# Altium footprint library YakupTrkn3.PcbLib: 43 footprints (part 1 of 3)
Each footprint in its own frame and in the unit in brackets; x right, y up, seen from the top. Pads: shape width x height; smd on the part's side, far side on the other; paste and mask are expansions set on the pad; w line width, h text height; cw(c..) or ccw(c..) is an arc to the next point about the centre after c.
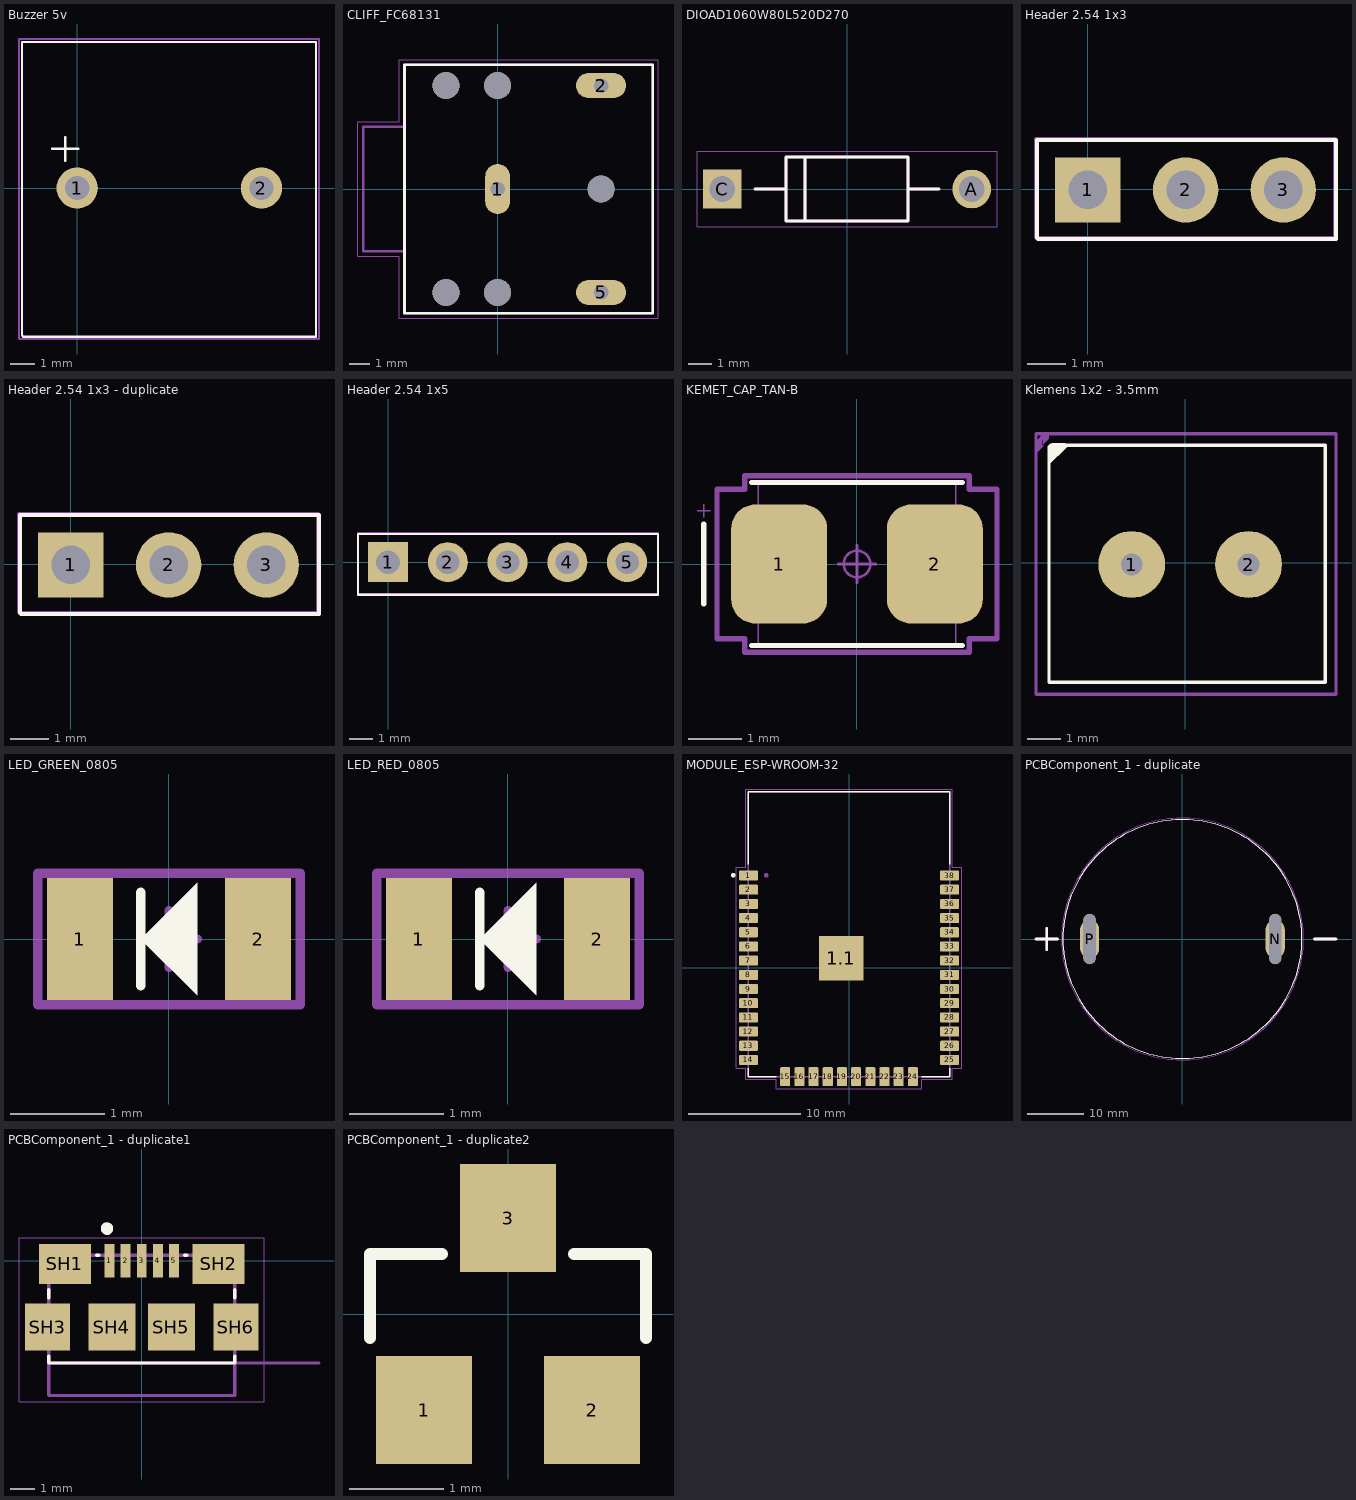
[diagram p0: the footprints below, top view; thin cyan lines are the x and y axes]

## Buzzer 5v [mm]
pads (2):
  round 1.7 hole 1 mask+0.05: 1(0,0) 2(7.6,0)
Top Overlay:
  lines w0.1: -1.025,1.625 0.05,1.625 ; -0.5,1.125 -0.5,2.1 ; -2.275,-6.075 -2.225,-6.125 9.85,-6.125 9.85,6.025 -2.275,6.025 -2.275,-6.075
Top Component Center:
  lines w0.1: -2.4,-6.225 9.975,-6.225 9.975,6.15 -2.4,6.15 -2.4,-6.225
3D body "cem-1205c.stp": height 9.5, standoff -4.5, extent -2.2,-6.05 9.8,5.95

## CLIFF_FC68131 [mm]
pads (8):
  oval 1.208x2.416 hole 0.7 square: 1(0,0)
  oval 2.416x1.208 hole 0.7 square: 2(5,5) 5(5,-5)
  round 1.3 hole 1.3 unplated: ""(-2.5,-5) ""(-2.5,5) ""(0,-5) ""(0,5) ""(5,0)
Top Overlay:
  lines w0.127: -4.5,-6 7.5,-6 7.5,6 -4.5,6 -4.5,-6
Mechanical 13:
  lines w0.127: -4.5,-3 -4.5,-6 7.5,-6 7.5,6 -4.5,6 -4.5,3 ; -4.5,-3 -4.5,3 ; -4.5,-3 -6.5,-3 -6.5,3 -4.5,3
  text "PCB EDGE" at -4.95,-6.25 h1.52
Mechanical 15:
  lines w0.05: -6.75,-3.25 -6.75,3.25 -4.75,3.25 -4.75,6.25 7.75,6.25 7.75,-6.25 -4.75,-6.25 -4.75,-3.25 -6.75,-3.25
3D body "step_temp.STEP": height 5.5, standoff -3.5, extent -6.5,-6 7.5,6

## DIOAD1060W80L520D270 [mm]
pads (2):
  round 1.65 hole 1.1: A(5.3,0)
  rect 1.65x1.65 hole 1.1: C(-5.3,0)
Top Overlay:
  lines w0.127: -3.9,0 -2.6,0 ; 3.9,0 2.6,0 ; -2.6,0 -2.6,-1.35 -1.775,-1.35 ; -2.6,0 -2.6,1.35 -1.775,1.35 ; -1.775,-1.35 -1.775,1.35 ; -1.775,-1.35 2.6,-1.35 2.6,0 ; -1.775,1.35 2.6,1.35 2.6,0
Mechanical 13:
  lines w0.127: -3.9,0 -2.6,0 ; 3.9,0 2.6,0 ; -2.6,0 -2.6,-1.35 -1.775,-1.35 ; -2.6,0 -2.6,1.35 -1.775,1.35 ; -1.775,-1.35 -1.775,1.35 ; -1.775,-1.35 2.6,-1.35 2.6,0 ; -1.775,1.35 2.6,1.35 2.6,0
Mechanical 15:
  lines w0.05: -6.375,-1.6 -6.375,1.6 6.375,1.6 6.375,-1.6 -6.375,-1.6
3D body "step_temp.STEP": height 2.69, standoff -21.77, extent -5.474,-1.346 5.474,1.346

## Header 2.54 1x3 [mm]
pads (3):
  rect 1.7x1.7 hole 1 mask+0.05: 1(0,-0.025)
  round 1.7 hole 1 mask+0.05: 2(2.54,-0.025) 3(5.08,-0.025)
Top Overlay:
  lines w0.1: -1.325,-1.275 -1.325,1.275 6.45,1.275 6.45,-1.3 -1.3,-1.3 -1.325,-1.275
Top Component Center:
  lines w0.1: -1.35,-1.25 -1.325,-1.275 6.425,-1.275 6.425,1.3 -1.35,1.3 -1.35,-1.25
3D body "User Library-ZL262-3SG.step": height 9.1, standoff -2.45, extent -1.26,-1.275 6.36,1.225

## Header 2.54 1x3 - duplicate [mm]
pads (3):
  rect 1.7x1.7 hole 1 mask+0.05: 1(0,-0.025)
  round 1.7 hole 1 mask+0.05: 2(2.54,-0.025) 3(5.08,-0.025)
Top Overlay:
  lines w0.1: -1.325,-1.275 -1.3,-1.3 6.45,-1.3 6.45,1.275 -1.325,1.275 -1.325,-1.275
Top Component Center:
  lines w0.1: -1.35,-1.25 -1.35,1.3 6.425,1.3 6.425,-1.275 -1.325,-1.275 -1.35,-1.25
3D body "User Library-ZL262-3SG.step": height 9.1, standoff -2.45, extent -1.26,-1.275 6.36,1.225

## Header 2.54 1x5 [mm]
pads (5):
  rect 1.7x1.7 hole 1 mask+0.05: 1(0,0)
  round 1.7 hole 1 mask+0.05: 2(2.54,0) 3(5.08,0) 4(7.62,0) 5(10.16,0)
Top Overlay:
  lines w0.1: -1.275,-1.375 -1.275,1.2 11.475,1.2 11.475,-1.375 -1.275,-1.375
Top Component Center:
  lines w0.1: -1.275,-1.35 -1.275,1.225 11.475,1.225 11.475,-1.35 -1.275,-1.35
3D body "User Library-ZL262-5SG (1).step": height 9.1, standoff -2.45, extent -1.25,-1.3 11.45,1.2

## KEMET_CAP_TAN-B [mm]
pads (2):
  rrect50% 1.8x2.23 smd paste+0 mask+0.04: 1(-1.46,0) 2(1.46,0)
Top Overlay:
  lines w0.1: -2.875,-0.75 -2.875,0.75 ; -1.977,-1.527 1.977,-1.527 ; -1.977,1.527 1.977,1.527
Mechanical 13:
  lines w0.025: -3,1 -2.75,1 ; -2.875,0.875 -2.875,1.125 ; -1.85,-1 -0.875,-1 -0.875,1 -1.85,1 ; 1.85,-1 0.875,-1 0.875,1 1.85,1 ; -1.85,-1.525 -1.85,1.525 1.85,1.525 1.85,-1.525 -1.85,-1.525
Mechanical 15:
  circle w0.05: c0,0 r0.25
  lines w0.05: -0.35,0 0.35,0 ; 0,-0.35 0,0.35
  lines w0.1: -2.625,-1.404 -2.104,-1.404 -2.104,-1.654 2.104,-1.654 2.104,-1.404 2.625,-1.404 2.625,1.404 2.104,1.404 2.104,1.654 -2.104,1.654 -2.104,1.404 -2.625,1.404 -2.625,-1.404
3D body "T495B106K025ATE750.step": height 2.1, standoff 0, extent -1.85,-1.5 1.85,1.5

## Klemens 1x2 - 3.5mm [mm]
pads (2):
  round 2 hole 0.65: 1(-1.6,-0.05) 2(1.9,-0.05)
Top Overlay:
  region: -3.533,3.482 -4.106,2.909 -4.106,3.444 -3.972,3.577 -3.593,3.577
  lines w0.1: -4.075,3.475 -4.075,-3.575 4.2,-3.575 4.2,3.525 -4.025,3.525
Top Component Center:
  region: -4.248,3.86 -4.464,3.644 -4.464,3.861 -4.462,3.86 -4.248,3.86 -4.248,3.496 -4.462,3.282 -4.462,3.86 -4.248,3.86 -4.241,3.853 -4.082,3.853 -4.082,3.709 -4.285,3.507
  lines w0.1: -4.462,-3.922 -4.453,-3.931 4.517,-3.931 4.517,3.86 -4.248,3.86 -4.462,3.86 -4.462,-3.922
3D body "terminal_blocks_a-tb350-te02.stp": height 8.9, standoff -3.29, extent -3.9,-3.45 4.094,3.55

## LED_GREEN_0805 [mm]
pads (2):
  rect 0.7x1.3 smd mask+0.05: 1(-0.95,0) 2(0.95,0)
Top Overlay:
  region: -0.3,0 0.3,0.6 0.3,-0.6
  lines w0.1: -0.3,-0.5 -0.3,0.5
Top Component Center:
  lines w0.1: -0.3,0 0.3,0 ; 0,-0.3 0,0.3 ; -1.4,-0.7 1.4,-0.7 1.4,0.7 -1.4,0.7 -1.4,-0.7
Top Designator:
  lines w0.1: -1.4,-0.7 1.4,-0.7 1.4,0.7 -1.4,0.7 -1.4,-0.7
  text "'.Designator'" at -1.25,-0.317 h0.7
3D body "SMD_0805LED_GREEN.STEP": height 1.1, standoff 0, extent -1.01,-0.625 1.01,0.625

## LED_RED_0805 [mm]
pads (2):
  rect 0.7x1.3 smd mask+0.05: 1(-0.95,0) 2(0.95,0)
Top Overlay:
  region: -0.3,0 0.3,0.6 0.3,-0.6
  lines w0.1: -0.3,-0.5 -0.3,0.5
Top Component Center:
  lines w0.1: -0.3,0 0.3,0 ; 0,-0.3 0,0.3 ; -1.4,-0.7 1.4,-0.7 1.4,0.7 -1.4,0.7 -1.4,-0.7
Top Designator:
  lines w0.1: -1.4,-0.7 1.4,-0.7 1.4,0.7 -1.4,0.7 -1.4,-0.7
  text "'.Designator'" at -1.25,-0.317 h0.7
3D body "SMD_0805LED_RED.STEP": height 1.1, standoff 0, extent -1.01,-0.625 1.01,0.625

## MODULE_ESP-WROOM-32 [mm]
pads (39):
  rrect22% 1.7x0.9 smd: 1(-9,8.255) 2(-9,6.985) 3(-9,5.715) 4(-9,4.445) 5(-9,3.175) 6(-9,1.905) 7(-9,0.635) 8(-9,-0.635) 9(-9,-1.905) 10(-9,-3.175) 11(-9,-4.445) 12(-9,-5.715) 13(-9,-6.985) 14(-9,-8.255) 25(9,-8.255) 26(9,-6.985) 27(9,-5.715) 28(9,-4.445) 29(9,-3.175) 30(9,-1.905) 31(9,-0.635) 32(9,0.635) 33(9,1.905) 34(9,3.175) 35(9,4.445) 36(9,5.715) 37(9,6.985) 38(9,8.255)
  rect 4x4 smd: 1.1(-0.7,0.845)
  rrect22% 0.9x1.7 smd: 15(-5.715,-9.755) 16(-4.445,-9.755) 17(-3.175,-9.755) 18(-1.905,-9.755) 19(-0.635,-9.755) 20(0.635,-9.755) 21(1.905,-9.755) 22(3.175,-9.755) 23(4.445,-9.755) 24(5.715,-9.755)
Top Overlay:
  circle w0.2: c-10.365,8.275 r0.1
  lines w0.127: -9,-9 -9,-9.75 -6.5,-9.75 ; -9,9.25 -9,15.75 9,15.75 9,9.25 ; 6.5,-9.75 9,-9.75 9,-9
Mechanical 13:
  circle w0.2: c-7.425,8.275 r0.1
  lines w0.127: -9,-9.755 -9,15.745 9,15.745 9,-9.755 -9,-9.755
Mechanical 15:
  lines w0.05: -10.1,-9 -10.1,9 -9.25,9 -9.25,16 9.25,16 9.25,9 10.1,9 10.1,-9 9.25,-9 9.25,-10 6.5,-10 6.5,-10.855 -6.5,-10.855 -6.5,-10 -9.25,-10 -9.25,-9 -10.1,-9
3D body "step_temp.STEP": height 3.25, standoff 0, extent -9,-12.75 9,12.75

## PCBComponent_1 [mm]

## PCBComponent_1 - duplicate [mm]
pads (2):
  oval 3.4x6.8 hole 2.2 slot 8.9 at 90 deg mask+0: N(16.5,0) P(-16.5,0)
Top Overlay:
  circle w0.127: c0,0 r21.25
  lines w0.5: -26.035,0 -22.225,0 ; -24.13,-1.905 -24.13,1.905 ; 23.495,0 27.305,0
Mechanical 13:
  circle w0.127: c0,0 r21.25
  lines w0.5: -26.035,0 -22.225,0 ; -24.13,-1.905 -24.13,1.905 ; 23.495,0 27.305,0
Mechanical 15:
  circle w0.05: c0,0 r21.5
3D body "step_temp.STEP": height 21.25, standoff -21.25, extent -21.247,-42 21.25,10.5

## PCBComponent_1 - duplicate1 [mm]
pads (11):
  rect 0.4x1.35 smd: 1(-1.3,0) 2(-0.65,0) 3(0,0) 4(0.65,0) 5(1.3,0)
  rect 2.1x1.6 smd: SH1(-3.1,-0.125) SH2(3.1,-0.125)
  rect 1.8x1.9 smd: SH3(-3.8,-2.675) SH6(3.8,-2.675)
  rect 1.9x1.9 smd: SH4(-1.2,-2.675) SH5(1.2,-2.675)
Top Overlay:
  circle w0.3: c-1.4,1.3 r0.1
  lines w0.127: -3.75,-3.85 -3.75,-4.125 3.75,-4.125 3.75,-3.85 ; -3.75,-1.5 -3.75,-1.15 ; -1.83,0.225 -1.72,0.225 ; 1.72,0.225 1.83,0.225 ; 3.75,-1.5 3.75,-1.15
Mechanical 13:
  circle w0.3: c-1.4,1.3 r0.1
  lines w0.127: 7.15,-4.125 3.75,-4.125 ; -3.75,-4.125 -3.75,-5.436 3.75,-5.436 3.75,-4.125 ; -3.75,-4.125 -3.75,0.225 3.75,0.225 3.75,-4.125 ; -3.75,-4.125 3.75,-4.125
  text "PCB Edge" at 5.205,-3.904 h1.52
Mechanical 15:
  lines w0.05: -4.95,-5.686 4.95,-5.686 4.95,0.925 -4.95,0.925 -4.95,-5.686
3D body "step_temp.STEP": height 2.5, standoff -0.29, extent -3.955,-5.396 3.955,0.27

## PCBComponent_1 - duplicate2 [mil]
pads (3):
  rect 40x45 smd: 1(-35,-40) 2(35,-40) 3(0,40)
Top Overlay:
  lines w5: -57.5,-10 -57.5,25 -27.5,25 ; 27.5,25 57.5,25 57.5,-10
3D body "step_temp.STEP": height 55.12, standoff 0, extent -57.09,-51.18 57.09,51.18

## PCBComponent_1 - duplicate3 [mm]